# Altium schematic symbol library TPA0211.Schlib: 1 symbol
Pins are listed as number, name and electrical type; pins without a type are passive.

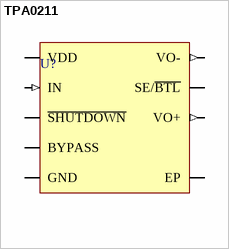
[diagram p0: symbol TPA0211]

## TPA0211
designator U?
2-W Mono Audio Power Amplifier
pins: 1 IN (in), 2 ~{SHUTDOWN}, 3 VDD (power), 4 BYPASS, 5 VO- (out), 6 GND (power), 7 SE/~{BTL}, 8 VO+ (out), 9 EP (power)